# Altium footprint library connectors.PcbLib: 143 footprints (part 9 of 9)
Each footprint in its own frame and in the unit in brackets; x right, y up, seen from the top. Pads: shape width x height; smd on the part's side, far side on the other; paste and mask are expansions set on the pad; w line width, h text height; cw(c..) or ccw(c..) is an arc to the next point about the centre after c.
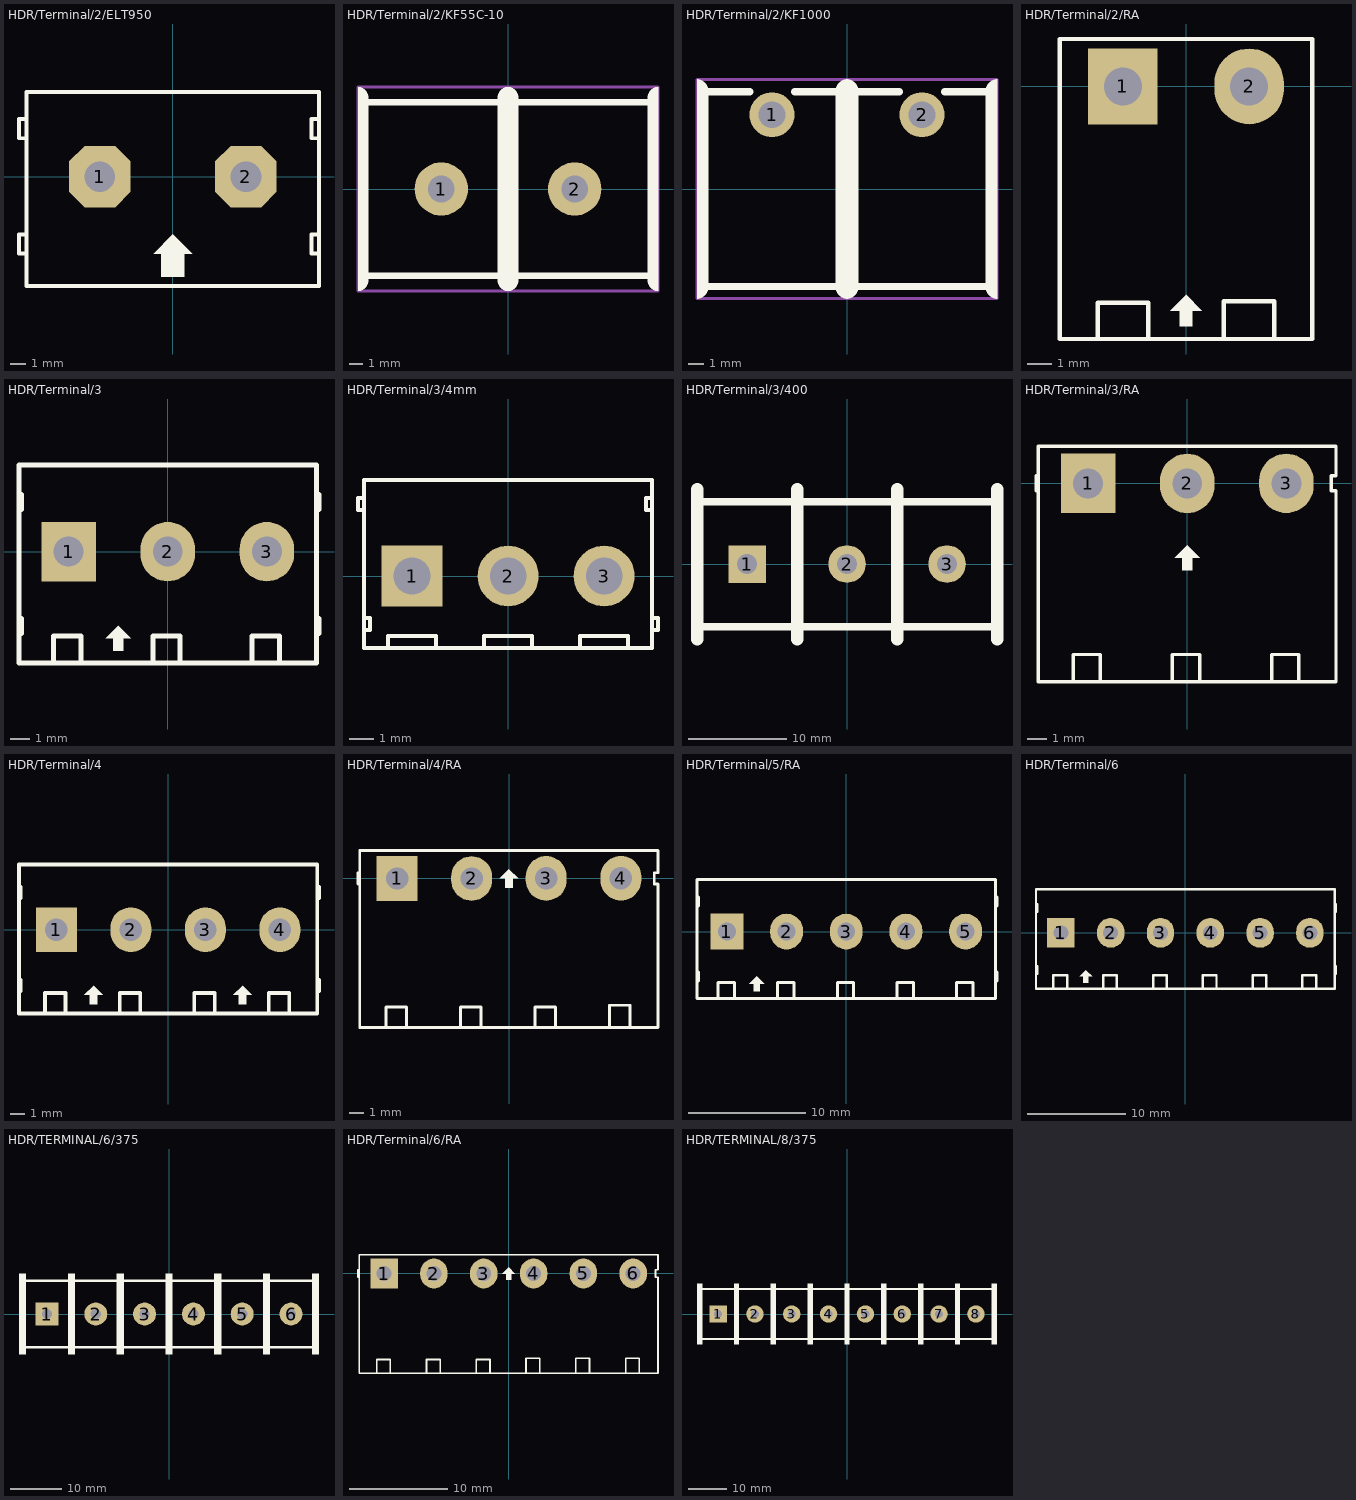
[diagram p8: the footprints below, top view; thin cyan lines are the x and y axes]

## HDR/Terminal/2/ELT950 [mm] "ELT950-9.5mm-2P"
pads (2):
  oct 4x4 hole 2: 1(-4.75,0) 2(4.75,0)
Top Overlay:
  region: -0.75,-6.5 0.75,-6.5 0.75,-5 1.25,-5 0,-3.75 -1.25,-5 -0.75,-5
  lines w0.254: -9.5,-5 -10,-5 -10,-3.75 -9.5,-3.75 ; -9.5,2.5 -10,2.5 -10,3.75 -9.5,3.75 ; 9.5,-5 9,-5 9,-3.75 9.5,-3.75 ; 9.5,2.5 9,2.5 9,3.75 9.5,3.75 ; -9.5,-7.1 -9.5,5.5 9.5,5.5 9.5,-7.1 -9.5,-7.1
3D body "37750.stp": height 21.5, standoff -5, extent -10.11,-7 9.5,5.5

## HDR/Terminal/2/KF55C-10 [mm]
pads (2):
  round 4 hole 2: 1(-5,0) 2(5,0)
Top Overlay:
  region: 11.25,7.65 11.176,7.65 11.031,7.621 10.895,7.565 10.772,7.483 10.667,7.378 10.585,7.255 10.529,7.119 10.5,6.974 10.5,6.9 10.5,-6.9 10.5,-6.974 10.529,-7.119 10.585,-7.255 10.667,-7.378 10.772,-7.483 10.895,-7.565 11.031,-7.621 11.176,-7.65 11.25,-7.65
  region: -11.25,7.65 -11.176,7.65 -11.031,7.621 -10.895,7.565 -10.772,7.483 -10.667,7.378 -10.585,7.255 -10.529,7.119 -10.5,6.974 -10.5,6.9 -10.5,-6.9 -10.5,-6.974 -10.529,-7.119 -10.585,-7.255 -10.667,-7.378 -10.772,-7.483 -10.895,-7.565 -11.031,-7.621 -11.176,-7.65 -11.25,-7.65
  region: 0,7.65 -0.074,7.65 -0.219,7.621 -0.355,7.565 -0.478,7.483 -0.583,7.378 -0.665,7.255 -0.721,7.119 -0.75,6.974 -0.75,6.9 -0.75,-6.9 -0.75,-6.974 -0.721,-7.119 -0.665,-7.255 -0.583,-7.378 -0.478,-7.483 -0.355,-7.565 -0.219,-7.621 -0.074,-7.65 0,-7.65
  region: 0,7.65 0.074,7.65 0.219,7.621 0.355,7.565 0.478,7.483 0.583,7.378 0.665,7.255 0.721,7.119 0.75,6.974 0.75,6.9 0.75,-6.9 0.75,-6.974 0.721,-7.119 0.665,-7.255 0.583,-7.378 0.478,-7.483 0.355,-7.565 0.219,-7.621 0.074,-7.65 0,-7.65
  lines w0.5: -11,-6.5 11,-6.5 ; -11,6.5 11,6.5
Mechanical 1:
  lines w0.2: -11.25,-7.65 -11.25,7.65 11.25,7.65 11.25,-7.65 -11.25,-7.65
3D body "User Library-Terminal_Block.step": height 18.14, standoff -5.36, extent -11,-7.75 11,7.75

## HDR/Terminal/2/KF1000 [mm]
pads (2):
  round 3 hole 1.8: 1(-5,4.95) 2(5,4.95)
Top Overlay:
  region: 0,7.3 0.074,7.3 0.219,7.271 0.355,7.215 0.478,7.133 0.583,7.028 0.665,6.905 0.721,6.769 0.75,6.624 0.75,6.55 0.75,-6.55 0.75,-6.624 0.721,-6.769 0.665,-6.905 0.583,-7.028 0.478,-7.133 0.355,-7.215 0.219,-7.271 0.074,-7.3 0,-7.3
  region: 0,7.3 -0.074,7.3 -0.219,7.271 -0.355,7.215 -0.478,7.133 -0.583,7.028 -0.665,6.905 -0.721,6.769 -0.75,6.624 -0.75,6.55 -0.75,-6.55 -0.75,-6.624 -0.721,-6.769 -0.665,-6.905 -0.583,-7.028 -0.478,-7.133 -0.355,-7.215 -0.219,-7.271 -0.074,-7.3 0,-7.3
  region: -10,7.3 -9.926,7.3 -9.781,7.271 -9.645,7.215 -9.522,7.133 -9.417,7.028 -9.335,6.905 -9.279,6.769 -9.25,6.624 -9.25,6.55 -9.25,-6.55 -9.25,-6.624 -9.279,-6.769 -9.335,-6.905 -9.417,-7.028 -9.522,-7.133 -9.645,-7.215 -9.781,-7.271 -9.926,-7.3 -10,-7.3
  region: 10,7.3 9.926,7.3 9.781,7.271 9.645,7.215 9.522,7.133 9.417,7.028 9.335,6.905 9.279,6.769 9.25,6.624 9.25,6.55 9.25,-6.55 9.25,-6.624 9.279,-6.769 9.335,-6.905 9.417,-7.028 9.522,-7.133 9.645,-7.215 9.781,-7.271 9.926,-7.3 10,-7.3
  lines w0.5: -9.75,6.5 -6.5,6.5 ; -9.25,-6.5 9.25,-6.5 ; -3.5,6.5 0,6.5 3.5,6.5 ; 6.5,6.5 9.75,6.5
Mechanical 1:
  lines w0.2: -10,-7.3 -10,7.3 10,7.3 10,-7.3 -10,-7.3
3D body "KF1000-2P.STEP": height 14.56, standoff -9.24, extent -10,-7.25 10.5,7.25

## HDR/Terminal/2/RA [mil] "Header 2, 2 pin, hight 300mil, Pin to Pin 200, Colour Green"
height 300
pads (2):
  rect 110x120 hole 60: 1(-100,0)
  oval 110x120 hole 60: 2(100,0)
Top Overlay:
  region: 0,-330 -25,-355 -10,-355 -10,-380 10,-380 10,-355 25,-355
  lines w7: -140,-400 -140,-342.5 -60,-342.5 -60,-400 ; 60,-400 60,-340 140,-340 140,-400 ; -200,-400 200,-400 200,-15 200,15 200,75 -200,75 -200,-400
3D body "User Library-BigHeader 5EHDR_1P.step": height 334.11, standoff -156.88, extent -190,-402.44 6.85,70
3D body "User Library-BigHeader 5EHDR_1P.step": height 334.11, standoff -156.88, extent 5,-402.44 201.85,70

## HDR/Terminal/3 [mil]
height 300
pads (3):
  rect 110x120 hole 60: 1(-200,0)
  oval 110x120 hole 60: 2(0,0) 3(200,0)
Top Overlay:
  region: -100,-150 -125,-175 -110,-175 -110,-200 -90,-200 -90,-175 -75,-175
  lines w10: -295,-165 -295,-135 ; -295,85 -295,115 ; -230,-225 -230,-170 -175,-170 -175,-225 ; -30,-225 -30,-170 25,-170 25,-225 ; 170,-225 170,-170 225,-170 225,-225 ; 305,-165 305,-135 ; 305,85 305,115 ; -300,-225 300,-225 300,175 -300,175 -300,-225
3D body "13989.stp": height 559.05, standoff -137.8, extent -129.17,-217.91 300,167.91
3D body "13989.stp": height 559.05, standoff -137.8, extent -329.17,-217.91 100,167.91

## HDR/Terminal/3/4mm [mil]
pads (3):
  rect 100x100 hole 60: 1(-157.54,0)
  round 100 hole 60: 2(0.06,0) 3(157.54,0)
Top Overlay:
  lines w7.01: -236.34,-118.11 -236.34,157.48 236.16,157.48 236.16,-118.11 -236.28,-118.11 ; -236.28,-88.58 -226.44,-88.58 -226.44,-68.9 -236.28,-68.9 ; -236.28,108.27 -246.12,108.27 -246.12,127.95 -236.28,127.95 ; -196.91,-118.11 -196.91,-98.43 -118.17,-98.43 -118.17,-118.11 ; -39.43,-118.11 -39.43,-98.43 39.31,-98.43 39.31,-118.11 ; 118.05,-118.11 118.05,-98.43 196.79,-98.43 196.79,-118.11 ; 236.16,-88.58 246,-88.58 246,-68.9 236.16,-68.9 ; 236.16,108.27 226.32,108.27 226.32,127.95 236.16,127.95

## HDR/Terminal/3/400 [mil]
pads (3):
  rect 150x150 hole 80: 1(-400,0)
  round 150 hole 80: 2(0,0) 3(400,0)
Top Overlay:
  lines w30: -600,-250 600,-250 ; -600,250 600,250
  lines w50: -600,-300 -600,300 ; -200,-300 -200,300 ; 200,-300 200,300 ; 600,-300 600,300

## HDR/Terminal/3/RA [mil] "Header 3, 3 pin, hight 300mil, Pin to Pin 200, Colour Green"
height 300
pads (3):
  rect 110x120 hole 60: 1(-200.03,-0.03)
  oval 110x120 hole 60: 2(-0.03,-0.03) 3(200.03,0.03)
Top Overlay:
  region: -0.03,-125.03 -25.03,-150.03 -10.03,-150.03 -10.03,-175.03 9.97,-175.03 9.97,-150.03 24.97,-150.03
  lines w7: -305.03,-15.03 -305.03,14.97 ; -230.03,-400.03 -230.03,-345.03 -175.03,-345.03 -175.03,-400.03 ; -30.03,-400.03 -30.03,-345.03 24.97,-345.03 24.97,-400.03 ; 169.97,-400.03 169.97,-345.03 224.97,-345.03 224.97,-400.03 ; -300.03,-400.03 -300.03,74.97 299.97,74.97 299.97,14.97 289.97,14.97 289.97,-15.03 299.97,-15.03 299.97,-400.03 -300.03,-400.03
3D body "User Library-BigHeader 5EHDR_1P.step": height 334.11, standoff -156.88, extent -95.03,-402.47 101.82,69.97
3D body "User Library-BigHeader 5EHDR_1P.step": height 334.11, standoff -156.88, extent -290.03,-402.47 -93.18,69.97
3D body "User Library-BigHeader 5EHDR_1P.step": height 334.11, standoff -156.88, extent 99.97,-402.47 296.82,69.97

## HDR/Terminal/4 [mil]
height 300
pads (4):
  rect 110x120 hole 60: 1(-300,0)
  oval 110x120 hole 60: 2(-100,0) 3(100,0) 4(300,0)
Top Overlay:
  region: 200,-150 225,-175 210,-175 210,-200 190,-200 190,-175 175,-175
  region: -200,-150 -225,-175 -210,-175 -210,-200 -190,-200 -190,-175 -175,-175
  lines w10: -395,-165 -395,-135 ; -395,85 -395,115 ; -330,-225 -330,-170 -275,-170 -275,-225 ; -130,-225 -130,-170 -75,-170 -75,-225 ; 70,-225 70,-170 125,-170 125,-225 ; 270,-225 270,-170 325,-170 325,-225 ; 405,-165 405,-135 ; 405,85 405,115 ; -400,-225 400,-225 400,175 -400,175 -400,-225
3D body "13989.stp": height 559.05, standoff -137.8, extent -29.17,-217.91 400,167.91
3D body "13989.stp": height 559.05, standoff -137.8, extent -429.17,-217.91 0,167.91

## HDR/Terminal/4/RA [mil] "Header 4, 4 pin, hight 300mil, Pin to Pin 200, Colour Green"
height 300
pads (4):
  rect 110x120 hole 60: 1(-300.2,-0.2)
  oval 110x120 hole 60: 2(-100.2,-0.2) 3(99.87,-0.13) 4(300.2,0.2)
Top Overlay:
  region: -0.2,24.8 -25.2,-0.2 -10.2,-0.2 -10.2,-25.2 9.8,-25.2 9.8,-0.2 24.8,-0.2
  lines w7: -405.2,-15.2 -405.2,14.8 ; -330.2,-400.2 -330.2,-345.2 -275.2,-345.2 -275.2,-400.2 ; -130.2,-400.2 -130.2,-345.2 -75.2,-345.2 -75.2,-400.2 ; 69.8,-400.2 69.8,-345.2 124.8,-345.2 124.8,-400.2 ; 269.8,-395.2 269.8,-340.2 324.8,-340.2 324.8,-395.2 ; -400.2,-400.2 -400.2,74.8 399.8,74.8 399.8,14.8 389.8,14.8 389.8,-15.2 399.8,-15.2 399.8,-400.2 -400.2,-400.2
3D body "User Library-BigHeader 5EHDR_1P.step": height 334.11, standoff -156.88, extent 194.8,-402.64 391.65,69.8
3D body "User Library-BigHeader 5EHDR_1P.step": height 334.11, standoff -156.88, extent -195.2,-402.64 1.65,69.8
3D body "User Library-BigHeader 5EHDR_1P.step": height 334.11, standoff -156.88, extent -390.2,-402.64 -193.35,69.8
3D body "User Library-BigHeader 5EHDR_1P.step": height 334.11, standoff -156.88, extent -0.2,-402.64 196.65,69.8

## HDR/Terminal/5/RA [mil]
height 300
pads (5):
  rect 110x120 hole 60: 1(-400,0)
  oval 110x120 hole 60: 2(-200,0) 3(0,0) 4(200,0) 5(400,0)
Top Overlay:
  region: -300,-150 -325,-175 -310,-175 -310,-200 -290,-200 -290,-175 -275,-175
  lines w10: -495,-165 -495,-135 ; -495,85 -495,115 ; -430,-225 -430,-170 -375,-170 -375,-225 ; -230,-225 -230,-170 -175,-170 -175,-225 ; -30,-225 -30,-170 25,-170 25,-225 ; 170,-225 170,-170 225,-170 225,-225 ; 370,-225 370,-170 425,-170 425,-225 ; 505,-165 505,-135 ; 505,85 505,115 ; -500,-225 -500,175 500,175 500,-225 -500,-225
3D body "13989.stp": height 559.05, standoff -137.8, extent 70.83,-217.91 500,167.91
3D body "13989.stp": height 559.05, standoff -137.8, extent -129.17,-217.91 300,167.91
3D body "13989.stp": height 559.05, standoff -137.8, extent -529.17,-217.91 -100,167.91

## HDR/Terminal/6 [mil]
height 300
pads (6):
  rect 110x120 hole 60: 1(-500,0)
  oval 110x120 hole 60: 2(-300,0) 3(-100,0) 4(100,0) 5(300,0) 6(500,0)
Top Overlay:
  region: -400,-150 -425,-175 -410,-175 -410,-200 -390,-200 -390,-175 -375,-175
  lines w10: -595,-165 -595,-135 ; -595,85 -595,115 ; -530,-225 -530,-170 -475,-170 -475,-225 ; -330,-225 -330,-170 -275,-170 -275,-225 ; -130,-225 -130,-170 -75,-170 -75,-225 ; 70,-225 70,-170 125,-170 125,-225 ; 270,-225 270,-170 325,-170 325,-225 ; 470,-225 470,-170 525,-170 525,-225 ; 605,-165 605,-135 ; 605,85 605,115 ; -600,-225 -600,175 600,175 600,-225 -600,-225
3D body "13989.stp": height 559.05, standoff -137.8, extent 170.83,-217.91 600,167.91
3D body "13989.stp": height 559.05, standoff -137.8, extent -229.17,-217.91 200,167.91
3D body "13989.stp": height 559.05, standoff -137.8, extent -629.17,-217.91 -200,167.91

## HDR/TERMINAL/6/375 [mm]
pads (6):
  rect 4.5x4.5 hole 2: 1(-23.812,0)
  round 4.5 hole 2: 2(-14.287,0) 3(-4.763,0) 4(4.763,0) 5(14.287,0) 6(23.812,0)
Top Overlay:
  rectangle: -19.748,-7.874 -18.351,7.874
  rectangle: -10.223,-7.874 -8.826,7.874
  rectangle: -0.699,-7.874 0.699,7.874
  rectangle: 8.826,-7.874 10.223,7.874
  rectangle: 18.351,-7.874 19.748,7.874
  rectangle: 27.877,-7.874 29.273,7.874
  region: -27.877,7.874 -29.274,7.874 -29.274,-7.874 -27.877,-7.874
  lines w0.5: -28.563,-6.5 -19.062,-6.5 ; -28.563,6.5 -19.062,6.5 ; -19.037,-6.5 -9.537,-6.5 ; -19.037,6.5 -9.537,6.5 ; -9.512,-6.5 -0.012,-6.5 ; -9.512,6.5 -0.012,6.5 ; 0.013,-6.5 9.513,-6.5 ; 0.013,6.5 9.513,6.5 ; 9.538,-6.5 19.038,-6.5 ; 9.538,6.5 19.038,6.5 ; 19.063,-6.5 28.563,-6.5 ; 19.063,6.5 28.563,6.5
3D body "User Library-0387206303.STEP": height 16.76, standoff -4.83, extent -29.654,-7.887 1.08,7.861
3D body "User Library-0387206303.STEP": height 16.76, standoff -4.83, extent -1.079,-7.887 29.655,7.861

## HDR/Terminal/6/RA [mil] "Header 6, 6 pin, hight 300mil, Pin to Pin 200, Colour Green"
height 300
pads (6):
  rect 110x120 hole 60: 1(-500.2,-0.2)
  oval 110x120 hole 60: 2(-300.2,-0.2) 3(-100.13,-0.13) 4(100.2,0.2) 5(300.2,0.2) 6(500.2,0.2)
Top Overlay:
  region: -0.2,24.8 -25.2,-0.2 -10.2,-0.2 -10.2,-25.2 9.8,-25.2 9.8,-0.2 24.8,-0.2
  lines w7: -605.2,-15.2 -605.2,14.8 ; -530.2,-400.2 -530.2,-345.2 -475.2,-345.2 -475.2,-400.2 ; -330.2,-400.2 -330.2,-345.2 -275.2,-345.2 -275.2,-400.2 ; -130.2,-400.2 -130.2,-345.2 -75.2,-345.2 -75.2,-400.2 ; 69.8,-395.2 69.8,-340.2 124.8,-340.2 124.8,-395.2 ; 269.8,-395.2 269.8,-340.2 324.8,-340.2 324.8,-395.2 ; 469.8,-395.2 469.8,-340.2 524.8,-340.2 524.8,-395.2 ; -600.2,-400.2 -600.2,74.8 599.8,74.8 599.8,14.8 589.8,14.8 589.8,-15.2 599.8,-15.2 599.8,-400.2 -600.2,-400.2
3D body "User Library-BigHeader 5EHDR_1P.step": height 334.11, standoff -156.88, extent 401.38,-402.64 598.23,69.8
3D body "User Library-BigHeader 5EHDR_1P.step": height 334.11, standoff -156.88, extent 199.8,-402.64 396.65,69.8
3D body "User Library-BigHeader 5EHDR_1P.step": height 334.11, standoff -156.88, extent 1.38,-402.64 198.23,69.8
3D body "User Library-BigHeader 5EHDR_1P.step": height 334.11, standoff -156.88, extent -397.05,-402.64 -200.2,69.8
3D body "User Library-BigHeader 5EHDR_1P.step": height 334.11, standoff -156.88, extent -597.05,-402.64 -400.2,69.8
3D body "User Library-BigHeader 5EHDR_1P.step": height 334.11, standoff -156.88, extent -198.62,-402.64 -1.77,69.8

## HDR/TERMINAL/8/375 [mm]
pads (8):
  rect 4.5x4.5 hole 2: 1(-33.337,0)
  round 4.5 hole 2: 2(-23.812,0) 3(-14.287,0) 4(-4.763,0) 5(4.763,0) 6(14.287,0) 7(23.812,0) 8(33.337,0)
Top Overlay:
  rectangle: 27.877,-7.874 29.273,7.874
  rectangle: 37.401,-7.874 38.798,7.874
  region: -37.402,7.874 -38.799,7.874 -38.799,-7.874 -37.402,-7.874
  rectangle: 18.351,-7.874 19.748,7.874
  rectangle: 8.826,-7.874 10.223,7.874
  rectangle: -0.699,-7.874 0.699,7.874
  rectangle: -10.223,-7.874 -8.826,7.874
  rectangle: -19.748,-7.874 -18.351,7.874
  rectangle: -29.273,-7.874 -27.877,7.874
  lines w0.5: -38.088,-6.5 -28.587,-6.5 ; -38.088,6.5 -28.587,6.5 ; -28.562,-6.5 -19.062,-6.5 ; -28.562,6.5 -19.062,6.5 ; -19.037,-6.5 -9.537,-6.5 ; -19.037,6.5 -9.537,6.5 ; -9.512,-6.5 -0.012,-6.5 ; -9.512,6.5 -0.012,6.5 ; 0.013,-6.5 9.513,-6.5 ; 0.013,6.5 9.513,6.5 ; 9.538,-6.5 19.038,-6.5 ; 9.538,6.5 19.038,6.5 ; 19.063,-6.5 28.563,-6.5 ; 19.063,6.5 28.563,6.5 ; 28.588,-6.5 38.088,-6.5 ; 28.588,6.5 38.088,6.5
3D body "User Library-0387206303.STEP": height 16.76, standoff -4.83, extent 8.446,-7.887 39.18,7.861
3D body "User Library-0387206303.STEP": height 16.76, standoff -4.83, extent -10.604,-7.887 20.13,7.861
3D body "User Library-0387206303.STEP": height 16.76, standoff -4.83, extent -39.179,-7.887 -8.445,7.861